# Altium integrated library Altium_MOSFET.IntLib: 7 symbols
Pins are listed as number, name and electrical type; pins without a type are passive.

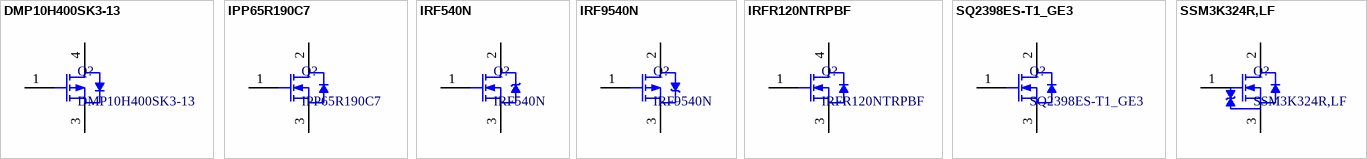
[diagram p0: symbols DMP10H400SK3-13 to SSM3K324R,LF]

## DMP10H400SK3-13
designator Q?
MOSFET 100V P-CH MOSFET; Manufacturer: Diodes Incorporated; Drain to Source Voltage (Vdss): -100V; Gate Threshold Voltage (Vth): -1 V; Gate-to-Source Voltage (VGS): ±20V; Drain-to-Source On-Resistance: 240 mOhms; Continuous Drain Current: -9 A; Total Gate Charge: 17.5 nC; Power Dissipation: 42 W; FET Type: P-Channel; ComponentLink1Description: Datasheet; ComponentLink1URL: https://www.mouser.vn/datasheet/2/196/Infineon_IRF9540N_DataSheet_v01_01_EN-3166147.pdf; Supplier 1 URL: https://www.mouser.vn/ProductDetail/Diodes-Incorporated/DMP10H400SK3-13?qs=wo71MgyKIyFqONaMc85PEA%3D%3D; Supplier 2 URL: N/A; Supplier 3 URL: N/A; Value: DMP10H400SK3-13; Manufacturer Part Number: DMP10H400SK3-13; Mount: SMD/SMT; Operating Temperature Max: + 85 C; Operating Temperature Min: - 40 C; Package / Case: DPAK-3 (TO-252-3); Packaging: Tape and Reel; Supplier 1: Mouser; Supplier 1 Part Number: 621-DMP10H400SK3-13; Supplier 2: Digi-Key; Supplier 2 Part Number: N/A; Supplier 3: thegioiic; Supplier 3 Part Number: N/A; LCSC Part #: C177034
footprint TO-252-3 (D-PAK, 3-Pads, Body 6.20x6.54mm (max), IPC Medium Density)
pins: 1 G, 3 S, 4 D

## IPP65R190C7
designator Q?
MOSFET N-CH, 650V, 13A, 190mOhm, TO220AB; Manufacturer: Infineon Technologies; Drain-to-Source On-Resistance: 190mΩ; FET Type: N-Channel; Gate-to-Source Voltage (VGS): ±20V; Gate Threshold Voltage (Vth): 3-4V; Power Dissipation: 72W; Total Gate Charge: 23nC; Continuous Drain Current: 13A; Drain to Source Voltage (Vdss): 650V; ComponentLink1Description: Datasheet; ComponentLink1URL: https://www.mouser.vn/datasheet/2/196/Infineon_IPP65R190C7_DS_v02_01_en-3165368.pdf; Supplier 1 URL: https://www.mouser.vn/ProductDetail/Infineon-Technologies/IPP65R190C7?qs=61g%252BPyeGH22xCcDq3bqxig%3D%3D; Supplier 2 URL: https://www.digikey.com/en/products/detail/rochester-electronics-llc/IPP65R190C7/13437818; Supplier 3 URL: N/A; Value: IPP65R190C7; Manufacturer Part Number: IPP65R190C7; Mount: SMD/SMT; Operating Temperature Max: + 85 C; Operating Temperature Min: - 40 C; Package / Case: TO-220AB; Packaging: Tape and Reel; Supplier 1: Mouser; Supplier 1 Part Number: 726-IPP65R190C7; Supplier 2: Digi-Key; Supplier 2 Part Number: 2156-IPP65R190C7-ND; Supplier 3: thegioiic; Supplier 3 Part Number: N/A
footprint IPP65R-TO-220AB
pins: 1 G, 2 D, 3 S

## IRF540N
designator Q?
MOSFET MOSFT 100V 33A 44mOhm 47.3nC; Manufacturer: Infineon Technologies; Gate Threshold Voltage (Vth): 2-4V; Gate-to-Source Voltage (VGS): ±20V; Drain-to-Source On-Resistance: 44mΩ; Total Gate Charge: 71nC; Power Dissipation: 130W; FET Type: N-Channel; Drain to Source Voltage (Vdss): 100V; Continuous Drain Current: 33A; ComponentLink1Description: Datasheet; ComponentLink1URL: https://www.mouser.vn/datasheet/2/196/Infineon_IRF540N_DataSheet_v01_01_EN-3166033.pdf; Supplier 1 URL: https://www.mouser.vn/ProductDetail/Infineon-Technologies/IRF540NPBF?qs=9%252BKlkBgLFf36us%252Bg5kwffA%3D%3D; Supplier 2 URL: https://www.digikey.com/en/products/detail/infineon-technologies/IRF540NPBF/811869; Supplier 3 URL: https://www.thegioiic.com/irf540npbf-mosfet-kenh-n-100v-33a-to-220ab; Value: IRF540N; Manufacturer Part Number: IRF540N; Mount: SMD/SMT; Operating Temperature Max: + 85 C; Operating Temperature Min: - 40 C; Package / Case: TO-220AB; Packaging: Tape and Reel; Supplier 1: Mouser; Supplier 1 Part Number: 942-IRF540NPBF; Supplier 2: Digi-Key; Supplier 2 Part Number: IRF540NPBF-ND; Supplier 3: thegioiic; Supplier 3 Part Number: N/A
footprint IRF540N-TO-220AB
pins: 1 G, 2 D, 3 S

## IRF9540N
designator Q?
MOSFET MOSFT PCh -100V -23A 117mOhm 64.7nC; Manufacturer: Infineon Technologies; Gate-to-Source Voltage (VGS): ±20V; Drain-to-Source On-Resistance: 0.117Ω; Total Gate Charge: 97nC; Power Dissipation: 140W; FET Type: P-Channel; Drain to Source Voltage (Vdss): -100V; Gate Threshold Voltage (Vth): N/A; Continuous Drain Current: -23A; ComponentLink1Description: Datasheet; ComponentLink1URL: https://www.mouser.vn/datasheet/2/196/Infineon_IRF9540N_DataSheet_v01_01_EN-3166147.pdf; Supplier 1 URL: https://www.mouser.vn/ProductDetail/Infineon-Technologies/IRF9540NPBF?qs=9%252BKlkBgLFf0vnuA8mxUPtw%3D%3D; Supplier 2 URL: https://www.digikey.com/en/products/detail/infineon-technologies/IRF9540NPBF/812088; Supplier 3 URL: https://www.thegioiic.com/irf9540npbf-mosfet-kenh-p-100v-19a-to-220ab; Value: IRF9540N; Manufacturer Part Number: IRF9540N; Mount: SMD/SMT; Operating Temperature Max: + 85 C; Operating Temperature Min: - 40 C; Package / Case: TO-220AB; Packaging: Tape and Reel; Supplier 1: Mouser; Supplier 1 Part Number: 942-IRF9540NPBF; Supplier 2: Digi-Key; Supplier 2 Part Number: IRF9540NPBF-ND; Supplier 3: thegioiic; Supplier 3 Part Number: N/A
footprint IRF9540N-TO-220AB
pins: 1 G, 2 D, 3 S

## IRFR120NTRPBF
designator Q?
MOSFET 100V 1 N-CH HEXFET 210mOhms 16.7nC; Manufacturer: Infineon Technologies; Continuous Drain Current: 9.4 A; Drain-to-Source On-Resistance: 210 mΩ; FET Type: N-Channel; Gate-to-Source Voltage (VGS): ±20V; Gate Threshold Voltage (Vth): 1.8 V; Power Dissipation: 48 W; Total Gate Charge: 23nC; Drain to Source Voltage (Vdss): 100 V; ComponentLink1Description: Datasheet; ComponentLink1URL: https://www.mouser.vn/datasheet/2/196/Infineon_IRFR120N_DataSheet_v01_01_EN-3363096.pdf; Supplier 1 URL: https://www.mouser.com/ProductDetail/Toshiba/SSM3K324RLF?qs=PiFplXvYe5XQediraS9xUQ%3D%3D; Supplier 2 URL: N/A; Supplier 3 URL: N/A; Value: IRFR120NTRPBF; Manufacturer Part Number: IRFR120NTRPBF; Mount: SMD/SMT; Operating Temperature Max: + 85 C; Operating Temperature Min: - 40 C; Package / Case: DPAK-3 (TO-252-3); Packaging: Tape and Reel; Supplier 1: Mouser; Supplier 1 Part Number: 942-IRFR120NTRPBF; Supplier 2: Digi-Key; Supplier 2 Part Number: N/A; Supplier 3: thegioiic; Supplier 3 Part Number: N/A; LCSC Part #: C3008
footprint TO-252-3 (D-PAK, 3-Pads, Body 6.20x6.54mm (max), IPC Medium Density)
pins: 1 G, 3 S, 4 D

## SQ2398ES-T1_GE3
designator Q?
MOSFET N Ch 100Vds 20Vgs AEC-Q101 Qualified; Manufacturer: Vishay Semiconductors; Drain-to-Source On-Resistance: 0.3Ω; Continuous Drain Current: 1.6A; Drain to Source Voltage (Vdss): 100V; FET Type: N-Channel; Gate-to-Source Voltage (VGS): ±20V; Gate Threshold Voltage (Vth): 2.5-3.5V; Power Dissipation: 2W; Total Gate Charge: 3.4nC; ComponentLink1Description: Datasheet; ComponentLink1URL: https://www.vishay.com/doc?67117; Supplier 1 URL: https://www.mouser.vn/ProductDetail/Vishay-Semiconductors/SQ2398ES-T1_GE3?qs=Vcr9%2FL0R50iBTttjVcQTDw%3D%3D; Supplier 2 URL: https://www.digikey.com/en/products/detail/vishay-siliconix/SQ2398ES-T1-GE3/7566741?s=N4IgTCBcDaIMoEUwGYCcAOAonAtAFQEYB9AcU2RAF0BfIA; Supplier 3 URL: N/A; Value: SQ2398ES-T1_GE3; Manufacturer Part Number: SQ2398ES-T1_GE3; Mount: SMD/SMT; Operating Temperature Max: + 85 C; Operating Temperature Min: - 40 C; Package / Case: SOT-23; Packaging: Tape and Reel; Supplier 1: Mouser; Supplier 1 Part Number: 78-SQ2398ES-T1_GE3; Supplier 2: Digi-Key; Supplier 2 Part Number: SQ2398ES-T1_GE3TR-ND; Supplier 3: thegioiic; Supplier 3 Part Number: N/A; LCSC Part #: C727466
footprint SQ2398ES-SOT23
pins: 1 G, 2 D, 3 S

## SSM3K324R,LF
designator Q?
MOSFET N-Ch U-MOSVI FET ID 4A 30VDSS 200pF; Manufacturer: Toshiba; Drain-to-Source On-Resistance: 56 mΩ; Drain to Source Voltage (Vdss): 30 V; FET Type: N-Channel; Gate-to-Source Voltage (VGS): ±12V; Gate Threshold Voltage (Vth): 400 mV; Power Dissipation: 1W; Total Gate Charge: 23nC; Continuous Drain Current: 4 A; ComponentLink1Description: Datasheet; ComponentLink1URL: https://www.mouser.com/datasheet/2/408/SSM3K324R_datasheet_en_20210914-1916186.pdf; Supplier 1 URL: https://www.mouser.com/ProductDetail/Toshiba/SSM3K324RLF?qs=PiFplXvYe5XQediraS9xUQ%3D%3D; Supplier 2 URL: N/A; Supplier 3 URL: N/A; Value: SSM3K324R,LF; Manufacturer Part Number: SSM3K324R,LF; Mount: SMD/SMT; Operating Temperature Max: + 85 C; Operating Temperature Min: - 40 C; Package / Case: SOT-23F; Packaging: Tape and Reel; Supplier 1: Mouser; Supplier 1 Part Number: 757-SSM3K324RLF; Supplier 2: Digi-Key; Supplier 2 Part Number: N/A; Supplier 3: thegioiic; Supplier 3 Part Number: N/A; LCSC Part #: C395455
footprint SSM3K324R (SOTFL, 3-Leads, Body 2.90x2.40mm, Pitch 0.95mm, IPC Medium Density)
pins: 1 G, 2 D, 3 S